# Altium schematic symbol library Elements_library)Kolmakov.SchLib: 3 symbols
Pins are listed as number, name and electrical type; pins without a type are passive.

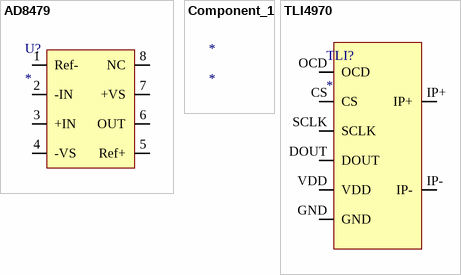
[diagram p0: symbols AD8479 to TLI4970]

## AD8479
designator U?
footprint SOIC127P600X175-8N (SOIC, 8-Leads, Body 5.0x4.0mm (max), Pitch 1.27mm, IPC Medium Density)
pins: 1 Ref-, 2 -IN, 3 +IN, 4 -VS, 5 Ref+, 6 OUT, 7 +VS, 8 NC

## Component_1
designator *

## TLI4970
designator TLI?
footprint TLI4970
pins: CS, DOUT, GND, IP+, IP-, OCD, SCLK, VDD